# Altium footprint library nogyr.PcbLib: 20 footprints (part 1 of 2)
Each footprint in its own frame and in the unit in brackets; x right, y up, seen from the top. Pads: shape width x height; smd on the part's side, far side on the other; paste and mask are expansions set on the pad; w line width, h text height; cw(c..) or ccw(c..) is an arc to the next point about the centre after c.
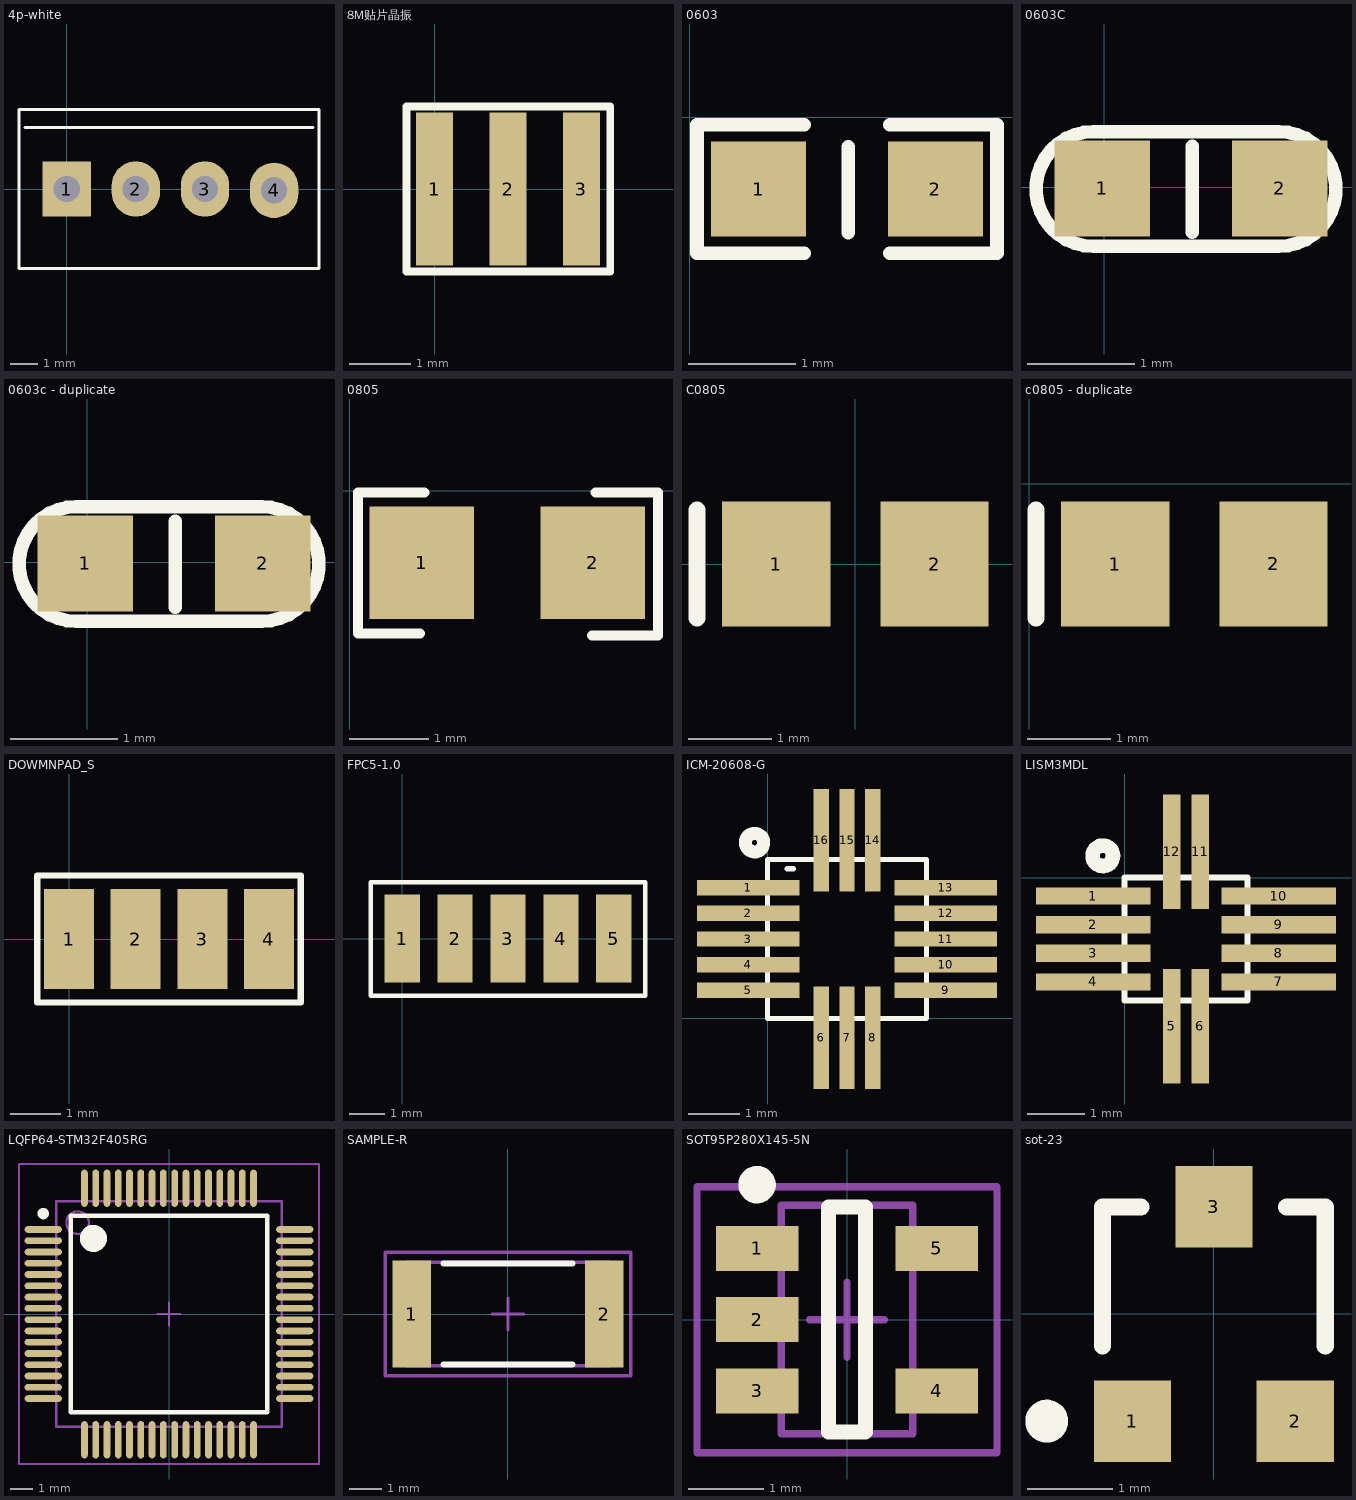
[diagram p0: the footprints below, top view; thin cyan lines are the x and y axes]

## 4p-white [mil]
pads (4):
  rect 70x80 hole 38: 1(0,0)
  oval 70x80 hole 38: 2(100,0) 3(200,0) 4(300,-2)
Top Overlay:
  lines w5: -60,89 356,89 ; 364,115 -69,115 -69,-115 365,-115 365,115

## 8M贴片晶振 [mm] "8M贴片晶振"
height 1.1
pads (3):
  rect 0.6x2.5 smd: 1(0,0) 2(1.2,0) 3(2.4,0)
Top Overlay:
  lines w0.127: -0.457,-1.346 2.87,-1.346 2.87,1.346 -0.457,1.346 -0.457,-1.346

## 0603 [mil]
height 43.31
pads (2):
  rect 35x35 smd: 1(25.23,-26.4) 2(90.23,-26.4)
Top Overlay:
  lines w5: 41.97,-50.02 2.6,-50.02 2.6,-2.78 41.97,-2.78 ; 58.23,-42.4 58.23,-10.9 ; 73.47,-50.02 112.84,-50.02 112.84,-2.78 73.47,-2.78
3D body "0603(1608)-CAP.STEP": height 10.04, standoff -0.2, extent 26.5,-41.89 89.5,-10
3D body: height 0, standoff 0, extent 73.45,-50.04 112.86,-2.75
3D body: height 0, standoff 0, extent 2.58,-50.04 42,-2.75

## 0603C [mil]
pads (2):
  rect 35x35 smd: 1(-0.77,-0.4) 2(64.23,-0.4)
Top Overlay:
  lines w5: 32.23,-16.4 32.23,15.1 ; -4,-21.6 cw(c-4,-0.6) -4,20.4 63.8,20.4 cw(c63.8,-0.6) 63.8,-21.6 -4,-21.6
3D body: height 0, standoff 0, extent -23.42,-24.04 16,23.25
3D body: height 0, standoff 0, extent 47.45,-24.04 86.86,23.25
3D body "0603(1608)-CAP.STEP": height 10.04, standoff -0.2, extent 0.5,-15.89 63.5,16

## 0603c - duplicate [mil]
pads (2):
  rect 35x35 smd: 1(-0.77,-0.4) 2(64.23,-0.4)
Top Overlay:
  lines w5: 32.23,-16.4 32.23,15.1 ; -4,-21.6 cw(c-4,-0.6) -4,20.4 63.8,20.4 cw(c63.8,-0.6) 63.8,-21.6 -4,-21.6
3D body: height 0, standoff 0, extent -23.42,-24.04 16,23.25
3D body: height 0, standoff 0, extent 47.45,-24.04 86.86,23.25
3D body "0603(1608)-CAP.STEP": height 10.04, standoff -0.2, extent 0.5,-15.89 63.5,16

## 0805 [mil]
pads (2):
  rect 52x56 smd: 1(35.6,-35.84) 2(120.6,-35.84)
Top Overlay:
  lines w5: 34.84,-70.84 4,-70.84 4,-1 37,-1 ; 120.16,-71.84 153,-71.84 153,-1 122,-1

## C0805 [mm]
pads (2):
  rect 1.3x1.5 smd: 1(-0.95,0) 2(0.95,0)
Top Overlay:
  lines w0.2: -1.9,-0.65 -1.9,0.65

## c0805 - duplicate [mm]
pads (2):
  rect 1.3x1.5 smd: 1(1.031,-0.965) 2(2.931,-0.965)
Top Overlay:
  lines w0.2: 0.081,-1.615 0.081,-0.315

## DOWMNPAD_S [mm]
pads (4):
  rect 1x2 smd: 1(0,0) 2(1.333,0) 3(2.667,0) 4(4,0)
Top Overlay:
  lines w0.127: -0.635,-1.27 4.635,-1.27 4.635,1.27 -0.635,1.27 -0.635,0 -0.635,-1.27

## FPC5-1.0 [mm]
pads (5):
  rect 1x2.5 smd: 1(0,0) 2(1.5,0) 3(3,0) 4(4.5,0) 5(6,0)
Top Overlay:
  lines w0.127: -0.889,-1.626 6.883,-1.626 6.883,1.6 -0.889,1.6 -0.889,-1.626

## ICM-20608-G [mm] "ICM-20608-G"
height 0.86
pads (16):
  rect 2x0.3 smd: 1(-0.375,2.55) 2(-0.375,2.05) 3(-0.375,1.55) 4(-0.375,1.05) 5(-0.375,0.55) 9(3.475,0.55) 10(3.475,1.05) 11(3.475,1.55) 12(3.475,2.05) 13(3.475,2.55)
  rect 0.3x2 smd: 6(1.05,-0.375) 7(1.55,-0.375) 8(2.05,-0.375) 14(2.05,3.475) 15(1.55,3.475) 16(1.05,3.475)
Top Overlay:
  lines w0.1: 0.381,2.921 0.508,2.921 ; 0,0 3.1,0 3.1,3.1 0,3.1 0,0
  lines w0.254: -0.254,3.609 ccw(c-0.254,3.429) -0.21,3.603

## LISM3MDL [mm] "LISM3MDL"
pads (12):
  rect 2x0.3 smd: 1(-0.55,-0.325) 2(-0.55,-0.825) 3(-0.55,-1.325) 4(-0.55,-1.825) 7(2.7,-1.825) 8(2.7,-1.325) 9(2.7,-0.825) 10(2.7,-0.325)
  rect 0.3x2 smd: 5(0.825,-2.6) 6(1.325,-2.6) 11(1.325,0.45) 12(0.825,0.45)
Top Overlay:
  circle w0.254: c-0.381,0.381 r0.18
  lines w0.1: 0,-2.15 2.15,-2.15 2.15,0 0,0 0,-2.15

## LQFP64-STM32F405RG [mm] "TSQFP, 64-Leads, Body 12.0x12.0mm (max), Pitch 0.50mm, IPC Medium Density"
height 1.6
pads (64):
  oval 1.65x0.3 smd: 1(-5.575,3.75) 2(-5.575,3.25) 3(-5.575,2.75) 4(-5.575,2.25) 5(-5.575,1.75) 6(-5.575,1.25) 7(-5.575,0.75) 8(-5.575,0.25) 9(-5.575,-0.25) 10(-5.575,-0.75) 11(-5.575,-1.25) 12(-5.575,-1.75) 13(-5.575,-2.25) 14(-5.575,-2.75) 15(-5.575,-3.25) 16(-5.575,-3.75) 33(5.575,-3.75) 34(5.575,-3.25) 35(5.575,-2.75) 36(5.575,-2.25) 37(5.575,-1.75) 38(5.575,-1.25) 39(5.575,-0.75) 40(5.575,-0.25) 41(5.575,0.25) 42(5.575,0.75) 43(5.575,1.25) 44(5.575,1.75) 45(5.575,2.25) 46(5.575,2.75) 47(5.575,3.25) 48(5.575,3.75)
  oval 0.3x1.65 smd: 17(-3.75,-5.575) 18(-3.25,-5.575) 19(-2.75,-5.575) 20(-2.25,-5.575) 21(-1.75,-5.575) 22(-1.25,-5.575) 23(-0.75,-5.575) 24(-0.25,-5.575) 25(0.25,-5.575) 26(0.75,-5.575) 27(1.25,-5.575) 28(1.75,-5.575) 29(2.25,-5.575) 30(2.75,-5.575) 31(3.25,-5.575) 32(3.75,-5.575) 49(3.75,5.575) 50(3.25,5.575) 51(2.75,5.575) 52(2.25,5.575) 53(1.75,5.575) 54(1.25,5.575) 55(0.75,5.575) 56(0.25,5.575) 57(-0.25,5.575) 58(-0.75,5.575) 59(-1.25,5.575) 60(-1.75,5.575) 61(-2.25,5.575) 62(-2.75,5.575) 63(-3.25,5.575) 64(-3.75,5.575)
Top Overlay:
  circle w0.25: c-5.575,4.45 r0.125
  circle w0.6: c-3.35,3.35 r0.3
  lines w0.2: -4.35,-4.35 -4.35,4.35 4.35,4.35 4.35,-4.35 -4.35,-4.35
Mechanical 13:
  circle w0.1: c-4.05,4.05 r0.5
  lines w0.1: -5,-5 -5,5 5,5 5,-5 -5,-5
Mechanical 15:
  lines w0.1: -0.5,0 0.5,0 ; 0,-0.5 0,0.5 ; -6.65,-6.65 -6.65,6.65 6.65,6.65 6.65,-6.65 -6.65,-6.65
3D body: height 1.6, standoff 0.05, extent -5,-5 5,5

## SAMPLE-R [mm] "Chip Resistor, 2-Leads, Body 6.3x3.2mm, IPC Medium Density"
height 0.65
pads (2):
  rect 1.2x3.35 smd: 1(-3,0) 2(3,0)
Top Overlay:
  lines w0.2: -2,-1.575 2,-1.575 ; -2,1.575 2,1.575
Mechanical 13:
  lines w0.1: -3.175,-1.61 -3.175,1.61 3.175,1.61 3.175,-1.61 -3.175,-1.61
Mechanical 15:
  lines w0.1: -0.5,0 0.5,0 ; 0,-0.5 0,0.5 ; -3.825,-1.925 -3.825,1.925 3.825,1.925 3.825,-1.925 -3.825,-1.925
3D body: height 0.65, standoff 0, extent -3.175,-1.61 3.175,1.61

## SOT95P280X145-5N [mm] "SOT23, 5-Leads, Body 3.0x3.0mm (max), Pitch 0.95mm, IPC Medium Density"
height 1.45
pads (5):
  rect 1.1x0.6 smd: 1(-1.2,0.95) 2(-1.2,0) 3(-1.2,-0.95) 4(1.2,-0.95) 5(1.2,0.95)
Top Overlay:
  circle w0.25: c-1.2,1.8 r0.125
  lines w0.2: -0.25,-1.5 -0.25,1.5 0.25,1.5 0.25,-1.5 -0.25,-1.5
Mechanical 13:
  lines w0.1: -0.875,-1.525 0.875,-1.525 0.875,1.525 -0.875,1.525 -0.875,-1.525
Mechanical 15:
  lines w0.1: -0.5,0 0.5,0 ; 0,-0.5 0,0.5 ; -2,-1.775 2,-1.775 2,1.775 -2,1.775 -2,-1.775
3D body: height 1.45, standoff 0.05, extent -0.875,-1.525 0.875,1.525

## sot-23 [mm]
pads (3):
  rect 0.9x0.95 smd: 1(-0.95,-1.25) 2(0.95,-1.25) 3(0,1.25)
Top Overlay:
  circle w0.25: c-1.95,-1.25 r0.125
  lines w0.2: -1.3,-0.375 -1.3,1.25 -0.85,1.25 ; 0.85,1.25 1.3,1.25 1.3,-0.375